# Altium schematic symbol library Analog IC Sym Lib.SchLib: 18 symbols
Pins are listed as number, name and electrical type; pins without a type are passive.

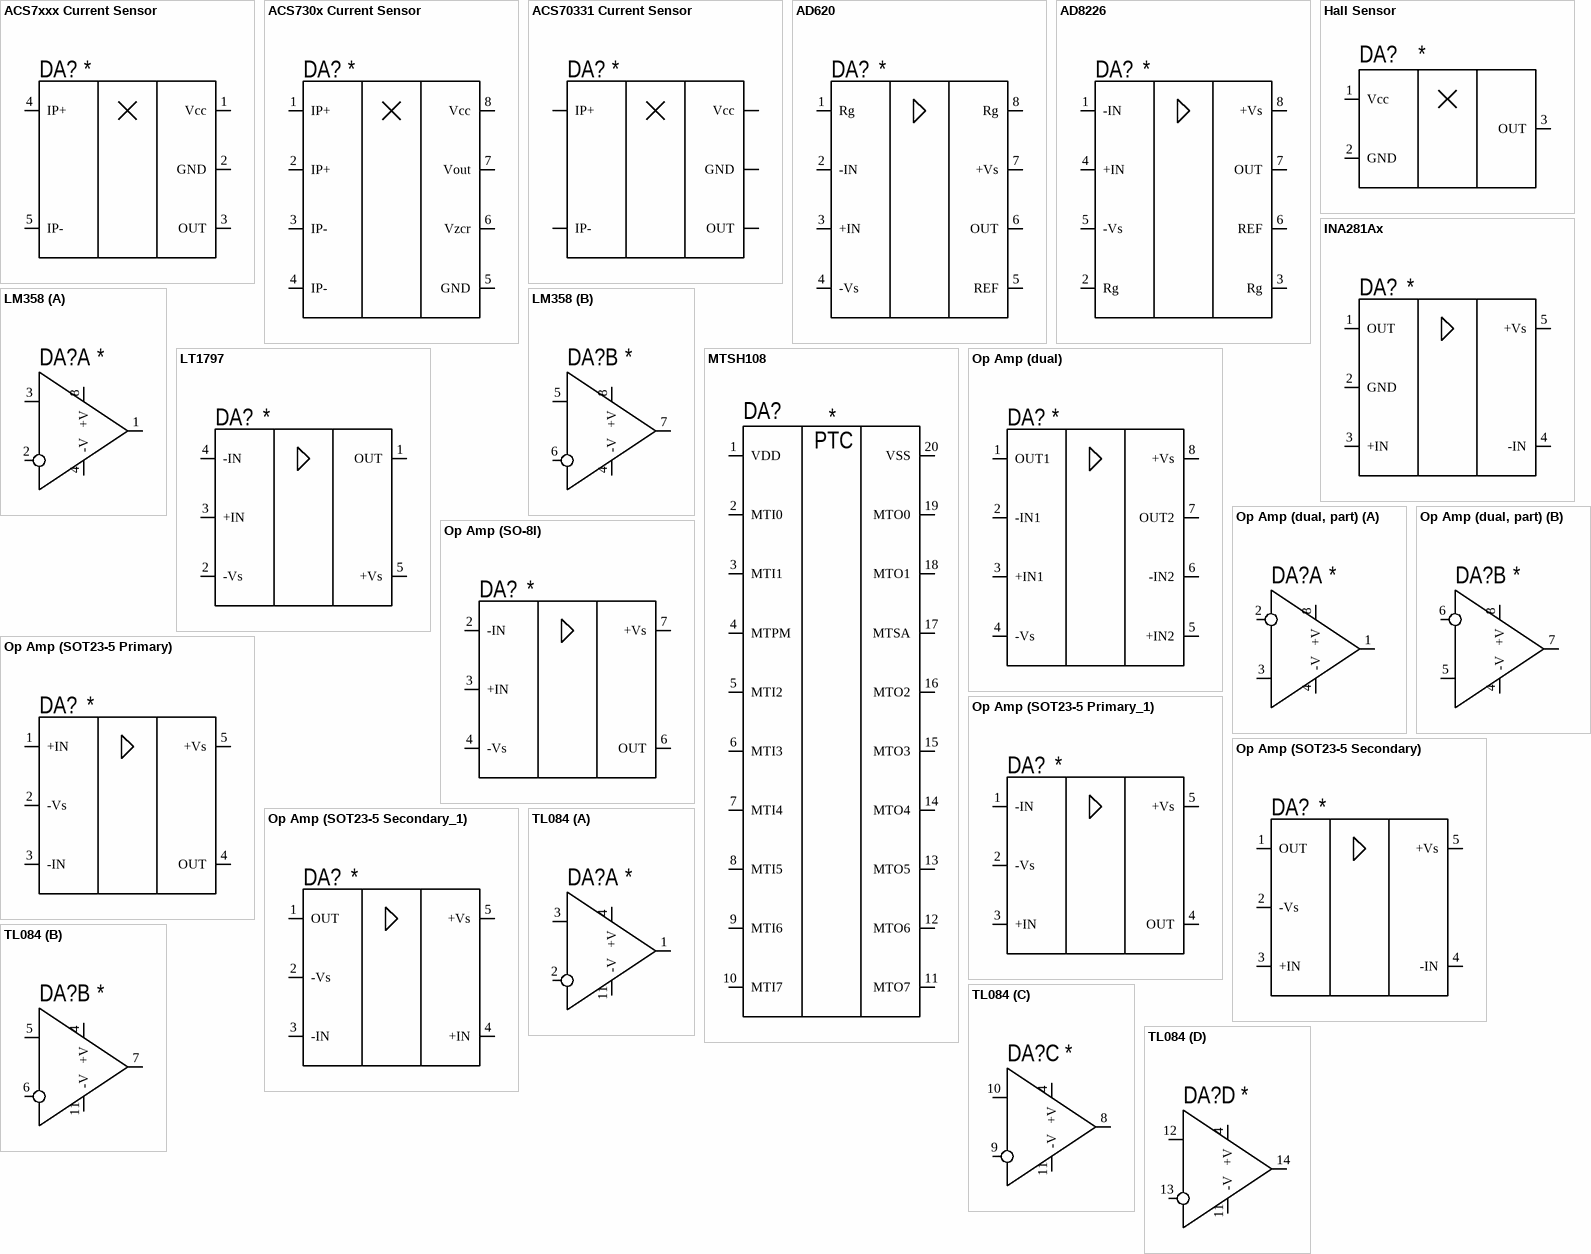
[diagram p0: symbols ACS7xxx Current Sensor to TL084]

## ACS7xxx Current Sensor
designator DA?
Model: *
pins: 1 Vcc, 2 GND, 3 OUT, 4 IP+, 5 IP-
1 alternate drawing of the same symbol

## ACS730x Current Sensor
designator DA?
Model: *
pins: 1 IP+, 2 IP+, 3 IP-, 4 IP-, 5 GND, 6 Vzcr, 7 Vout, 8 Vcc
1 alternate drawing of the same symbol

## ACS70331 Current Sensor
designator DA?
Model: *
pins: GND, IP+, IP-, OUT, Vcc
1 alternate drawing of the same symbol

## AD620
designator DA?
Model: *
pins: 1 Rg, 2 -IN, 3 +IN, 4 -Vs, 5 REF, 6 OUT, 7 +Vs, 8 Rg

## AD8226
designator DA?
Model: *
pins: 1 -IN, 2 Rg, 3 Rg, 4 +IN, 5 -Vs, 6 REF, 7 OUT, 8 +Vs

## Hall Sensor
designator DA?
Model: *
pins: 1 Vcc, 2 GND, 3 OUT

## INA281Ax
designator DA?
Model: *
pins: 1 OUT, 2 GND, 3 +IN, 4 -IN, 5 +Vs
1 alternate drawing of the same symbol

## LM358
designator DA?
Model: *
pins on every part: 4 -V, 8 +V
part A pins: 1 OUT1, 2 -IN1, 3 +IN1
part B pins: 5 +IN2, 6 -IN2, 7 OUT2

## LT1797
designator DA?
Model: *
pins: 1 OUT, 2 -Vs, 3 +IN, 4 -IN, 5 +Vs
1 alternate drawing of the same symbol

## MTSH108
designator DA?
Name: *
pins: 1 VDD, 2 MTI0, 3 MTI1, 4 MTPM, 5 MTI2, 6 MTI3, 7 MTI4, 8 MTI5, 9 MTI6, 10 MTI7, 11 MTO7, 12 MTO6, 13 MTO5, 14 MTO4, 15 MTO3, 16 MTO2, 17 MTSA, 18 MTO1, 19 MTO0, 20 VSS
text: PTC

## Op Amp (dual)
designator DA?
Model: *
pins: 1 OUT1, 2 -IN1, 3 +IN1, 4 -Vs, 5 +IN2, 6 -IN2, 7 OUT2, 8 +Vs

## Op Amp (dual, part)
designator DA?
Model: *
pins on every part: 4 -V, 8 +V
part A pins: 1 OUT1, 2 -IN1, 3 +IN1
part B pins: 5 +IN2, 6 -IN2, 7 OUT2

## Op Amp (SO-8l)
designator DA?
Model: *
pins: 2 -IN, 3 +IN, 4 -Vs, 6 OUT, 7 +Vs

## Op Amp (SOT23-5 Primary)
designator DA?
Model: *
pins: 1 +IN, 2 -Vs, 3 -IN, 4 OUT, 5 +Vs
1 alternate drawing of the same symbol

## Op Amp (SOT23-5 Primary_1)
designator DA?
Model: *
pins: 1 -IN, 2 -Vs, 3 +IN, 4 OUT, 5 +Vs
1 alternate drawing of the same symbol

## Op Amp (SOT23-5 Secondary)
designator DA?
Model: *
pins: 1 OUT, 2 -Vs, 3 +IN, 4 -IN, 5 +Vs
1 alternate drawing of the same symbol

## Op Amp (SOT23-5 Secondary_1)
designator DA?
Model: *
pins: 1 OUT, 2 -Vs, 3 -IN, 4 +IN, 5 +Vs
1 alternate drawing of the same symbol

## TL084
designator DA?
Model: *
pins on every part: 4 +V, 11 -V
part A pins: 1 OUT1, 2 -IN1, 3 +IN1
part B pins: 5 +IN2, 6 -IN2, 7 OUT2
part C pins: 8 OUT2, 9 -IN2, 10 +IN2
part D pins: 12 +IN2, 13 -IN2, 14 OUT2